# Altium integrated library con-wenzhou-yihua.IntLib: 1 symbol
Pins are listed as number, name and electrical type; pins without a type are passive.

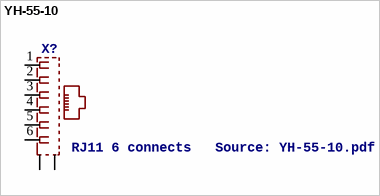
[diagram p0: symbol YH-55-10]

## YH-55-10
designator X?, comment RJ11 6 connects   Source: YH-55-10.pdf
OC_FARNELL: unknown; OC_NEWARK: unknown
footprint YH-55-10
pins: 1, 2, 3, 4, 5, 6, S1 S@1, S2 S@2